# EAGLE library part XCV1000E_BG728 (library xilinx-xcv)
xcv1000e_bg728_1532 edit this description Auto generated by make-symbol-device-package-bsdl.ulp Rev. 26 Source: xcv1000e_bg728_1532.bsd
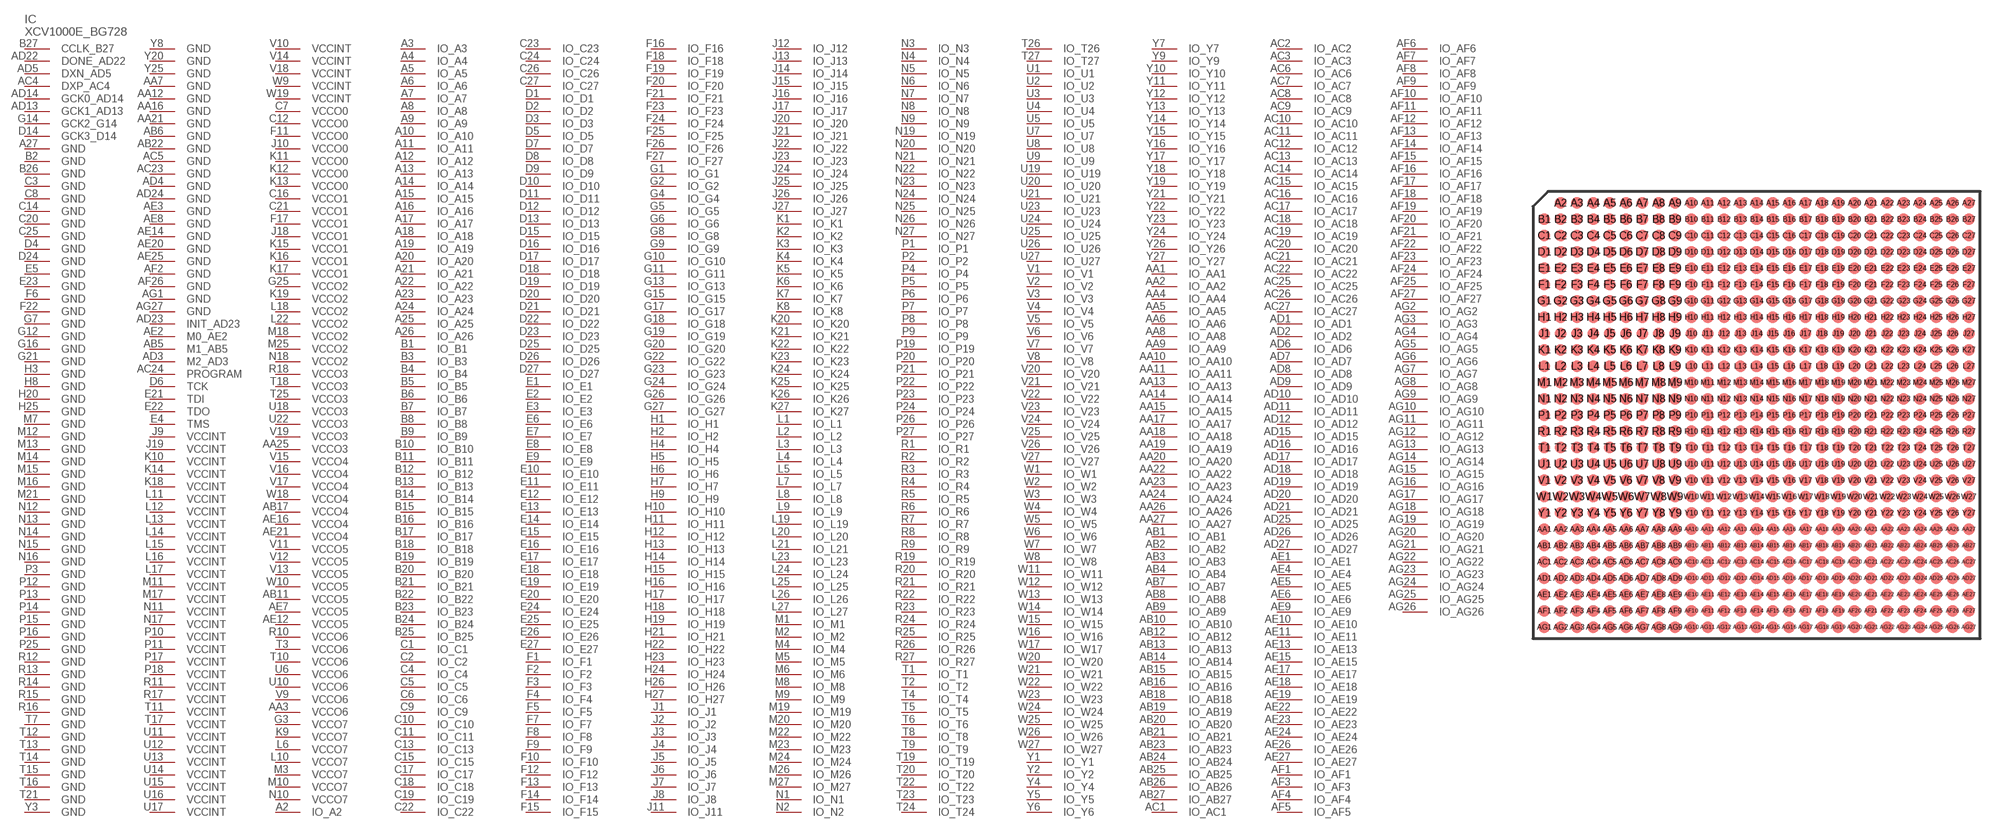
[diagram p9: symbol with the pads of BG728; footprint BG728]

Designator prefix IC

## XCV1000E_BG728 (OC_FARNELL: unknown; OC_NEWARK: unknown)  [BG728]
A2  IO_A2
A3  IO_A3
A4  IO_A4
A5  IO_A5
A6  IO_A6
A7  IO_A7
A8  IO_A8
A9  IO_A9
A10  IO_A10
A11  IO_A11
A12  IO_A12
A13  IO_A13
A14  IO_A14
A15  IO_A15
A16  IO_A16
A17  IO_A17
A18  IO_A18
A19  IO_A19
A20  IO_A20
A21  IO_A21
A22  IO_A22
A23  IO_A23
A24  IO_A24
A25  IO_A25
A26  IO_A26
A27  GND  pwr
AA1  IO_AA1
AA2  IO_AA2
AA3  VCCO6  pwr
AA4  IO_AA4
AA5  IO_AA5
AA6  IO_AA6
AA7  GND  pwr
AA8  IO_AA8
AA9  IO_AA9
AA10  IO_AA10
AA11  IO_AA11
AA12  GND  pwr
AA13  IO_AA13
AA14  IO_AA14
AA15  IO_AA15
AA16  GND  pwr
AA17  IO_AA17
AA18  IO_AA18
AA19  IO_AA19
AA20  IO_AA20
AA21  GND  pwr
AA22  IO_AA22
AA23  IO_AA23
AA24  IO_AA24
AA25  VCCO3  pwr
AA26  IO_AA26
AA27  IO_AA27
AB1  IO_AB1
AB2  IO_AB2
AB3  IO_AB3
AB4  IO_AB4
AB5  M1_AB5  in
AB6  GND  pwr
AB7  IO_AB7
AB8  IO_AB8
AB9  IO_AB9
AB10  IO_AB10
AB11  VCCO5  pwr
AB12  IO_AB12
AB13  IO_AB13
AB14  IO_AB14
AB15  IO_AB15
AB16  IO_AB16
AB17  VCCO4  pwr
AB18  IO_AB18
AB19  IO_AB19
AB20  IO_AB20
AB21  IO_AB21
AB22  GND  pwr
AB23  IO_AB23
AB24  IO_AB24
AB25  IO_AB25
AB26  IO_AB26
AB27  IO_AB27
AC1  IO_AC1
AC2  IO_AC2
AC3  IO_AC3
AC4  DXP_AC4  pas
AC5  GND  pwr
AC6  IO_AC6
AC7  IO_AC7
AC8  IO_AC8
AC9  IO_AC9
AC10  IO_AC10
AC11  IO_AC11
AC12  IO_AC12
AC13  IO_AC13
AC14  IO_AC14
AC15  IO_AC15
AC16  IO_AC16
AC17  IO_AC17
AC18  IO_AC18
AC19  IO_AC19
AC20  IO_AC20
AC21  IO_AC21
AC22  IO_AC22
AC23  GND  pwr
AC24  PROGRAM  in
AC25  IO_AC25
AC26  IO_AC26
AC27  IO_AC27
AD1  IO_AD1
AD2  IO_AD2
AD3  M2_AD3  in
AD4  GND  pwr
AD5  DXN_AD5  pas
AD6  IO_AD6
AD7  IO_AD7
AD8  IO_AD8
AD9  IO_AD9
AD10  IO_AD10
AD11  IO_AD11
AD12  IO_AD12
AD13  GCK1_AD13  in
AD14  GCK0_AD14  in
AD15  IO_AD15
AD16  IO_AD16
AD17  IO_AD17
AD18  IO_AD18
AD19  IO_AD19
AD20  IO_AD20
AD21  IO_AD21
AD22  DONE_AD22
AD23  INIT_AD23
AD24  GND  pwr
AD25  IO_AD25
AD26  IO_AD26
AD27  IO_AD27
AE1  IO_AE1
AE2  M0_AE2  in
AE3  GND  pwr
AE4  IO_AE4
AE5  IO_AE5
AE6  IO_AE6
AE7  VCCO5  pwr
AE8  GND  pwr
AE9  IO_AE9
AE10  IO_AE10
AE11  IO_AE11
AE12  VCCO5  pwr
AE13  IO_AE13
AE14  GND  pwr
AE15  IO_AE15
AE16  VCCO4  pwr
AE17  IO_AE17
AE18  IO_AE18
AE19  IO_AE19
AE20  GND  pwr
AE21  VCCO4  pwr
AE22  IO_AE22
AE23  IO_AE23
AE24  IO_AE24
AE25  GND  pwr
AE26  IO_AE26
AE27  IO_AE27
AF1  IO_AF1
AF2  GND  pwr
AF3  IO_AF3
AF4  IO_AF4
AF5  IO_AF5
AF6  IO_AF6
AF7  IO_AF7
AF8  IO_AF8
AF9  IO_AF9
AF10  IO_AF10
AF11  IO_AF11
AF12  IO_AF12
AF13  IO_AF13
AF14  IO_AF14
AF15  IO_AF15
AF16  IO_AF16
AF17  IO_AF17
AF18  IO_AF18
AF19  IO_AF19
AF20  IO_AF20
AF21  IO_AF21
AF22  IO_AF22
AF23  IO_AF23
AF24  IO_AF24
AF25  IO_AF25
AF26  GND  pwr
AF27  IO_AF27
AG1  GND  pwr
AG2  IO_AG2
AG3  IO_AG3
AG4  IO_AG4
AG5  IO_AG5
AG6  IO_AG6
AG7  IO_AG7
AG8  IO_AG8
AG9  IO_AG9
AG10  IO_AG10
AG11  IO_AG11
AG12  IO_AG12
AG13  IO_AG13
AG14  IO_AG14
AG15  IO_AG15
AG16  IO_AG16
AG17  IO_AG17
AG18  IO_AG18
AG19  IO_AG19
AG20  IO_AG20
AG21  IO_AG21
AG22  IO_AG22
AG23  IO_AG23
AG24  IO_AG24
AG25  IO_AG25
AG26  IO_AG26
AG27  GND  pwr
B1  IO_B1
B2  GND  pwr
B3  IO_B3
B4  IO_B4
B5  IO_B5
B6  IO_B6
B7  IO_B7
B8  IO_B8
B9  IO_B9
B10  IO_B10
B11  IO_B11
B12  IO_B12
B13  IO_B13
B14  IO_B14
B15  IO_B15
B16  IO_B16
B17  IO_B17
B18  IO_B18
B19  IO_B19
B20  IO_B20
B21  IO_B21
B22  IO_B22
B23  IO_B23
B24  IO_B24
B25  IO_B25
B26  GND  pwr
B27  CCLK_B27
C1  IO_C1
C2  IO_C2
C3  GND  pwr
C4  IO_C4
C5  IO_C5
C6  IO_C6
C7  VCCO0  pwr
C8  GND  pwr
C9  IO_C9
C10  IO_C10
C11  IO_C11
C12  VCCO0  pwr
C13  IO_C13
C14  GND  pwr
C15  IO_C15
C16  VCCO1  pwr
C17  IO_C17
C18  IO_C18
C19  IO_C19
C20  GND  pwr
C21  VCCO1  pwr
C22  IO_C22
C23  IO_C23
C24  IO_C24
C25  GND  pwr
C26  IO_C26
C27  IO_C27
D1  IO_D1
D2  IO_D2
D3  IO_D3
D4  GND  pwr
D5  IO_D5
D6  TCK  in
D7  IO_D7
D8  IO_D8
D9  IO_D9
D10  IO_D10
D11  IO_D11
D12  IO_D12
D13  IO_D13
D14  GCK3_D14  in
D15  IO_D15
D16  IO_D16
D17  IO_D17
D18  IO_D18
D19  IO_D19
D20  IO_D20
D21  IO_D21
D22  IO_D22
D23  IO_D23
D24  GND  pwr
D25  IO_D25
D26  IO_D26
D27  IO_D27
E1  IO_E1
E2  IO_E2
E3  IO_E3
E4  TMS  in
E5  GND  pwr
E6  IO_E6
E7  IO_E7
E8  IO_E8
E9  IO_E9
E10  IO_E10
E11  IO_E11
E12  IO_E12
E13  IO_E13
E14  IO_E14
E15  IO_E15
E16  IO_E16
E17  IO_E17
E18  IO_E18
E19  IO_E19
E20  IO_E20
E21  TDI  in
E22  TDO  out
E23  GND  pwr
E24  IO_E24
E25  IO_E25
E26  IO_E26
E27  IO_E27
F1  IO_F1
F2  IO_F2
F3  IO_F3
F4  IO_F4
F5  IO_F5
F6  GND  pwr
F7  IO_F7
F8  IO_F8
F9  IO_F9
F10  IO_F10
F11  VCCO0  pwr
F12  IO_F12
F13  IO_F13
F14  IO_F14
F15  IO_F15
F16  IO_F16
F17  VCCO1  pwr
F18  IO_F18
F19  IO_F19
F20  IO_F20
F21  IO_F21
F22  GND  pwr
F23  IO_F23
F24  IO_F24
F25  IO_F25
F26  IO_F26
F27  IO_F27
G1  IO_G1
G2  IO_G2
G3  VCCO7  pwr
G4  IO_G4
G5  IO_G5
G6  IO_G6
G7  GND  pwr
G8  IO_G8
G9  IO_G9
G10  IO_G10
G11  IO_G11
G12  GND  pwr
G13  IO_G13
G14  GCK2_G14  in
G15  IO_G15
G16  GND  pwr
G17  IO_G17
G18  IO_G18
G19  IO_G19
G20  IO_G20
G21  GND  pwr
G22  IO_G22
G23  IO_G23
G24  IO_G24
G25  VCCO2  pwr
G26  IO_G26
G27  IO_G27
H1  IO_H1
H2  IO_H2
H3  GND  pwr
H4  IO_H4
H5  IO_H5
H6  IO_H6
H7  IO_H7
H8  GND  pwr
H9  IO_H9
H10  IO_H10
H11  IO_H11
H12  IO_H12
H13  IO_H13
H14  IO_H14
H15  IO_H15
H16  IO_H16
H17  IO_H17
H18  IO_H18
H19  IO_H19
H20  GND  pwr
H21  IO_H21
H22  IO_H22
H23  IO_H23
H24  IO_H24
H25  GND  pwr
H26  IO_H26
H27  IO_H27
J1  IO_J1
J2  IO_J2
J3  IO_J3
J4  IO_J4
J5  IO_J5
J6  IO_J6
J7  IO_J7
J8  IO_J8
J9  VCCINT  pwr
J10  VCCO0  pwr
J11  IO_J11
J12  IO_J12
J13  IO_J13
J14  IO_J14
J15  IO_J15
J16  IO_J16
J17  IO_J17
J18  VCCO1  pwr
J19  VCCINT  pwr
J20  IO_J20
J21  IO_J21
J22  IO_J22
J23  IO_J23
J24  IO_J24
J25  IO_J25
J26  IO_J26
J27  IO_J27
K1  IO_K1
K2  IO_K2
K3  IO_K3
K4  IO_K4
K5  IO_K5
K6  IO_K6
K7  IO_K7
K8  IO_K8
K9  VCCO7  pwr
K10  VCCINT  pwr
K11  VCCO0  pwr
K12  VCCO0  pwr
K13  VCCO0  pwr
K14  VCCINT  pwr
K15  VCCO1  pwr
K16  VCCO1  pwr
K17  VCCO1  pwr
K18  VCCINT  pwr
K19  VCCO2  pwr
K20  IO_K20
K21  IO_K21
K22  IO_K22
K23  IO_K23
K24  IO_K24
K25  IO_K25
K26  IO_K26
K27  IO_K27
L1  IO_L1
L2  IO_L2
L3  IO_L3
L4  IO_L4
L5  IO_L5
L6  VCCO7  pwr
L7  IO_L7
L8  IO_L8
L9  IO_L9
L10  VCCO7  pwr
L11  VCCINT  pwr
L12  VCCINT  pwr
L13  VCCINT  pwr
L14  VCCINT  pwr
L15  VCCINT  pwr
L16  VCCINT  pwr
L17  VCCINT  pwr
L18  VCCO2  pwr
L19  IO_L19
L20  IO_L20
L21  IO_L21
L22  VCCO2  pwr
L23  IO_L23
L24  IO_L24
L25  IO_L25
L26  IO_L26
L27  IO_L27
M1  IO_M1
M2  IO_M2
M3  VCCO7  pwr
M4  IO_M4
M5  IO_M5
M6  IO_M6
M7  GND  pwr
M8  IO_M8
M9  IO_M9
M10  VCCO7  pwr
M11  VCCINT  pwr
M12  GND  pwr
M13  GND  pwr
M14  GND  pwr
M15  GND  pwr
M16  GND  pwr
M17  VCCINT  pwr
M18  VCCO2  pwr
M19  IO_M19
M20  IO_M20
M21  GND  pwr
M22  IO_M22
M23  IO_M23
M24  IO_M24
M25  VCCO2  pwr
M26  IO_M26
M27  IO_M27
N1  IO_N1
N2  IO_N2
N3  IO_N3
N4  IO_N4
N5  IO_N5
N6  IO_N6
N7  IO_N7
N8  IO_N8
N9  IO_N9
N10  VCCO7  pwr
N11  VCCINT  pwr
N12  GND  pwr
N13  GND  pwr
N14  GND  pwr
N15  GND  pwr
N16  GND  pwr
N17  VCCINT  pwr
N18  VCCO2  pwr
N19  IO_N19
N20  IO_N20
N21  IO_N21
N22  IO_N22
N23  IO_N23
N24  IO_N24
N25  IO_N25
N26  IO_N26
N27  IO_N27
P1  IO_P1
P2  IO_P2
P3  GND  pwr
P4  IO_P4
P5  IO_P5
P6  IO_P6
P7  IO_P7
P8  IO_P8
P9  IO_P9
P10  VCCINT  pwr
P11  VCCINT  pwr
P12  GND  pwr
P13  GND  pwr
P14  GND  pwr
P15  GND  pwr
P16  GND  pwr
P17  VCCINT  pwr
P18  VCCINT  pwr
P19  IO_P19
P20  IO_P20
P21  IO_P21
P22  IO_P22
P23  IO_P23
P24  IO_P24
P25  GND  pwr
P26  IO_P26
P27  IO_P27
R1  IO_R1
R2  IO_R2
R3  IO_R3
R4  IO_R4
R5  IO_R5
R6  IO_R6
R7  IO_R7
R8  IO_R8
R9  IO_R9
R10  VCCO6  pwr
R11  VCCINT  pwr
R12  GND  pwr
R13  GND  pwr
R14  GND  pwr
R15  GND  pwr
R16  GND  pwr
R17  VCCINT  pwr
R18  VCCO3  pwr
R19  IO_R19
R20  IO_R20
R21  IO_R21
R22  IO_R22
R23  IO_R23
R24  IO_R24
R25  IO_R25
R26  IO_R26
R27  IO_R27
T1  IO_T1
T2  IO_T2
T3  VCCO6  pwr
T4  IO_T4
T5  IO_T5
T6  IO_T6
T7  GND  pwr
T8  IO_T8
T9  IO_T9
T10  VCCO6  pwr
T11  VCCINT  pwr
T12  GND  pwr
T13  GND  pwr
T14  GND  pwr
T15  GND  pwr
T16  GND  pwr
T17  VCCINT  pwr
T18  VCCO3  pwr
T19  IO_T19
T20  IO_T20
T21  GND  pwr
T22  IO_T22
T23  IO_T23
T24  IO_T24
T25  VCCO3  pwr
T26  IO_T26
T27  IO_T27
U1  IO_U1
U2  IO_U2
U3  IO_U3
U4  IO_U4
U5  IO_U5
U6  VCCO6  pwr
U7  IO_U7
U8  IO_U8
U9  IO_U9
U10  VCCO6  pwr
U11  VCCINT  pwr
U12  VCCINT  pwr
U13  VCCINT  pwr
U14  VCCINT  pwr
U15  VCCINT  pwr
U16  VCCINT  pwr
U17  VCCINT  pwr
U18  VCCO3  pwr
U19  IO_U19
U20  IO_U20
U21  IO_U21
U22  VCCO3  pwr
U23  IO_U23
U24  IO_U24
U25  IO_U25
U26  IO_U26
U27  IO_U27
V1  IO_V1
V2  IO_V2
V3  IO_V3
V4  IO_V4
V5  IO_V5
V6  IO_V6
V7  IO_V7
V8  IO_V8
V9  VCCO6  pwr
V10  VCCINT  pwr
V11  VCCO5  pwr
V12  VCCO5  pwr
V13  VCCO5  pwr
V14  VCCINT  pwr
V15  VCCO4  pwr
V16  VCCO4  pwr
V17  VCCO4  pwr
V18  VCCINT  pwr
V19  VCCO3  pwr
V20  IO_V20
V21  IO_V21
V22  IO_V22
V23  IO_V23
V24  IO_V24
V25  IO_V25
V26  IO_V26
V27  IO_V27
W1  IO_W1
W2  IO_W2
W3  IO_W3
W4  IO_W4
W5  IO_W5
W6  IO_W6
W7  IO_W7
W8  IO_W8
W9  VCCINT  pwr
W10  VCCO5  pwr
W11  IO_W11
W12  IO_W12
W13  IO_W13
W14  IO_W14
W15  IO_W15
W16  IO_W16
W17  IO_W17
W18  VCCO4  pwr
W19  VCCINT  pwr
W20  IO_W20
W21  IO_W21
W22  IO_W22
W23  IO_W23
W24  IO_W24
W25  IO_W25
W26  IO_W26
W27  IO_W27
Y1  IO_Y1
Y2  IO_Y2
Y3  GND  pwr
Y4  IO_Y4
Y5  IO_Y5
Y6  IO_Y6
Y7  IO_Y7
Y8  GND  pwr
Y9  IO_Y9
Y10  IO_Y10
Y11  IO_Y11
Y12  IO_Y12
Y13  IO_Y13
Y14  IO_Y14
Y15  IO_Y15
Y16  IO_Y16
Y17  IO_Y17
Y18  IO_Y18
Y19  IO_Y19
Y20  GND  pwr
Y21  IO_Y21
Y22  IO_Y22
Y23  IO_Y23
Y24  IO_Y24
Y25  GND  pwr
Y26  IO_Y26
Y27  IO_Y27

## Footprint BG728 (pad centres in mm)
xcv1000e_bg728_1532 edit this description Auto generated by make-symbol-device-package-bsdl.ulp Rev. 26 Source: xcv1000e_bg728_1532.bsd
smd 0.9 x 0.9: A2 -15.24,16.51; A3 -13.97,16.51; A4 -12.7,16.51; A5 -11.43,16.51; A6 -10.16,16.51; A7 -8.89,16.51; A8 -7.62,16.51; A9 -6.35,16.51; A10 -5.08,16.51; A11 -3.81,16.51; A12 -2.54,16.51; A13 -1.27,16.51; A14 0,16.51; A15 1.27,16.51; A16 2.54,16.51; A17 3.81,16.51; A18 5.08,16.51; A19 6.35,16.51; A20 7.62,16.51; A21 8.89,16.51; A22 10.16,16.51; A23 11.43,16.51; A24 12.7,16.51; A25 13.97,16.51; A26 15.24,16.51; A27 16.51,16.51; AA1 -16.51,-8.89; AA2 -15.24,-8.89; AA3 -13.97,-8.89; AA4 -12.7,-8.89; AA5 -11.43,-8.89; AA6 -10.16,-8.89; AA7 -8.89,-8.89; AA8 -7.62,-8.89; AA9 -6.35,-8.89; AA10 -5.08,-8.89; AA11 -3.81,-8.89; AA12 -2.54,-8.89; AA13 -1.27,-8.89; AA14 0,-8.89; AA15 1.27,-8.89; AA16 2.54,-8.89; AA17 3.81,-8.89; AA18 5.08,-8.89; AA19 6.35,-8.89; AA20 7.62,-8.89; AA21 8.89,-8.89; AA22 10.16,-8.89; AA23 11.43,-8.89; AA24 12.7,-8.89; AA25 13.97,-8.89; AA26 15.24,-8.89; AA27 16.51,-8.89; AB1 -16.51,-10.16; AB2 -15.24,-10.16; AB3 -13.97,-10.16; AB4 -12.7,-10.16; AB5 -11.43,-10.16; AB6 -10.16,-10.16; AB7 -8.89,-10.16; AB8 -7.62,-10.16; AB9 -6.35,-10.16; AB10 -5.08,-10.16; AB11 -3.81,-10.16; AB12 -2.54,-10.16; AB13 -1.27,-10.16; AB14 0,-10.16; AB15 1.27,-10.16; AB16 2.54,-10.16; AB17 3.81,-10.16; AB18 5.08,-10.16; AB19 6.35,-10.16; AB20 7.62,-10.16; AB21 8.89,-10.16; AB22 10.16,-10.16; AB23 11.43,-10.16; AB24 12.7,-10.16; AB25 13.97,-10.16; AB26 15.24,-10.16; AB27 16.51,-10.16; AC1 -16.51,-11.43; AC2 -15.24,-11.43; AC3 -13.97,-11.43; AC4 -12.7,-11.43; AC5 -11.43,-11.43; AC6 -10.16,-11.43; AC7 -8.89,-11.43; AC8 -7.62,-11.43; AC9 -6.35,-11.43; AC10 -5.08,-11.43; AC11 -3.81,-11.43; AC12 -2.54,-11.43; AC13 -1.27,-11.43; AC14 0,-11.43; AC15 1.27,-11.43; AC16 2.54,-11.43; AC17 3.81,-11.43; AC18 5.08,-11.43; AC19 6.35,-11.43; AC20 7.62,-11.43; AC21 8.89,-11.43; AC22 10.16,-11.43; AC23 11.43,-11.43; AC24 12.7,-11.43; AC25 13.97,-11.43; AC26 15.24,-11.43; AC27 16.51,-11.43; AD1 -16.51,-12.7; AD2 -15.24,-12.7; AD3 -13.97,-12.7; AD4 -12.7,-12.7; AD5 -11.43,-12.7; AD6 -10.16,-12.7; AD7 -8.89,-12.7; AD8 -7.62,-12.7; AD9 -6.35,-12.7; AD10 -5.08,-12.7; AD11 -3.81,-12.7; AD12 -2.54,-12.7; AD13 -1.27,-12.7; AD14 0,-12.7; AD15 1.27,-12.7; AD16 2.54,-12.7; AD17 3.81,-12.7; AD18 5.08,-12.7; AD19 6.35,-12.7; AD20 7.62,-12.7; AD21 8.89,-12.7; AD22 10.16,-12.7; AD23 11.43,-12.7; AD24 12.7,-12.7; AD25 13.97,-12.7; AD26 15.24,-12.7; AD27 16.51,-12.7; AE1 -16.51,-13.97; AE2 -15.24,-13.97; AE3 -13.97,-13.97; AE4 -12.7,-13.97; AE5 -11.43,-13.97; AE6 -10.16,-13.97; AE7 -8.89,-13.97; AE8 -7.62,-13.97; AE9 -6.35,-13.97; AE10 -5.08,-13.97; AE11 -3.81,-13.97; AE12 -2.54,-13.97; AE13 -1.27,-13.97; AE14 0,-13.97; AE15 1.27,-13.97; AE16 2.54,-13.97; AE17 3.81,-13.97; AE18 5.08,-13.97; AE19 6.35,-13.97; AE20 7.62,-13.97; AE21 8.89,-13.97; AE22 10.16,-13.97; AE23 11.43,-13.97; AE24 12.7,-13.97; AE25 13.97,-13.97; AE26 15.24,-13.97; AE27 16.51,-13.97; AF1 -16.51,-15.24; AF2 -15.24,-15.24; AF3 -13.97,-15.24; AF4 -12.7,-15.24; AF5 -11.43,-15.24; AF6 -10.16,-15.24; AF7 -8.89,-15.24; AF8 -7.62,-15.24; AF9 -6.35,-15.24; AF10 -5.08,-15.24; AF11 -3.81,-15.24; AF12 -2.54,-15.24; AF13 -1.27,-15.24; AF14 0,-15.24; AF15 1.27,-15.24; AF16 2.54,-15.24; AF17 3.81,-15.24; AF18 5.08,-15.24; AF19 6.35,-15.24; AF20 7.62,-15.24; AF21 8.89,-15.24; AF22 10.16,-15.24; AF23 11.43,-15.24; AF24 12.7,-15.24; AF25 13.97,-15.24; AF26 15.24,-15.24; AF27 16.51,-15.24; AG1 -16.51,-16.51; AG2 -15.24,-16.51; AG3 -13.97,-16.51; AG4 -12.7,-16.51; AG5 -11.43,-16.51; AG6 -10.16,-16.51; AG7 -8.89,-16.51; AG8 -7.62,-16.51; AG9 -6.35,-16.51; AG10 -5.08,-16.51; AG11 -3.81,-16.51; AG12 -2.54,-16.51; AG13 -1.27,-16.51; AG14 0,-16.51; AG15 1.27,-16.51; AG16 2.54,-16.51; AG17 3.81,-16.51; AG18 5.08,-16.51; AG19 6.35,-16.51; AG20 7.62,-16.51; AG21 8.89,-16.51; AG22 10.16,-16.51; AG23 11.43,-16.51; AG24 12.7,-16.51; AG25 13.97,-16.51; AG26 15.24,-16.51; AG27 16.51,-16.51; B1 -16.51,15.24; B2 -15.24,15.24; B3 -13.97,15.24; B4 -12.7,15.24; B5 -11.43,15.24; B6 -10.16,15.24; B7 -8.89,15.24; B8 -7.62,15.24; B9 -6.35,15.24; B10 -5.08,15.24; B11 -3.81,15.24; B12 -2.54,15.24; B13 -1.27,15.24; B14 0,15.24; B15 1.27,15.24; B16 2.54,15.24; B17 3.81,15.24; B18 5.08,15.24; B19 6.35,15.24; B20 7.62,15.24; B21 8.89,15.24; B22 10.16,15.24; B23 11.43,15.24; B24 12.7,15.24; B25 13.97,15.24; B26 15.24,15.24; B27 16.51,15.24; C1 -16.51,13.97; C2 -15.24,13.97; C3 -13.97,13.97; C4 -12.7,13.97; C5 -11.43,13.97; C6 -10.16,13.97; C7 -8.89,13.97; C8 -7.62,13.97; C9 -6.35,13.97; C10 -5.08,13.97; C11 -3.81,13.97; C12 -2.54,13.97; C13 -1.27,13.97; C14 0,13.97; C15 1.27,13.97; C16 2.54,13.97; C17 3.81,13.97; C18 5.08,13.97; C19 6.35,13.97; C20 7.62,13.97; C21 8.89,13.97; C22 10.16,13.97; C23 11.43,13.97; C24 12.7,13.97; C25 13.97,13.97; C26 15.24,13.97; C27 16.51,13.97; D1 -16.51,12.7; D2 -15.24,12.7; D3 -13.97,12.7; D4 -12.7,12.7; D5 -11.43,12.7; D6 -10.16,12.7; D7 -8.89,12.7; D8 -7.62,12.7; D9 -6.35,12.7; D10 -5.08,12.7; D11 -3.81,12.7; D12 -2.54,12.7; D13 -1.27,12.7; D14 0,12.7; D15 1.27,12.7; D16 2.54,12.7; D17 3.81,12.7; D18 5.08,12.7; D19 6.35,12.7; D20 7.62,12.7; D21 8.89,12.7; D22 10.16,12.7; D23 11.43,12.7; D24 12.7,12.7; D25 13.97,12.7; D26 15.24,12.7; D27 16.51,12.7; E1 -16.51,11.43; E2 -15.24,11.43; E3 -13.97,11.43; E4 -12.7,11.43; E5 -11.43,11.43; E6 -10.16,11.43; E7 -8.89,11.43; E8 -7.62,11.43; E9 -6.35,11.43; E10 -5.08,11.43; E11 -3.81,11.43; E12 -2.54,11.43; E13 -1.27,11.43; E14 0,11.43; E15 1.27,11.43; E16 2.54,11.43; E17 3.81,11.43; E18 5.08,11.43; E19 6.35,11.43; E20 7.62,11.43; E21 8.89,11.43; E22 10.16,11.43; E23 11.43,11.43; E24 12.7,11.43; E25 13.97,11.43; E26 15.24,11.43; E27 16.51,11.43; F1 -16.51,10.16; F2 -15.24,10.16; F3 -13.97,10.16; F4 -12.7,10.16; F5 -11.43,10.16; F6 -10.16,10.16; F7 -8.89,10.16; F8 -7.62,10.16; F9 -6.35,10.16; F10 -5.08,10.16; F11 -3.81,10.16; F12 -2.54,10.16; F13 -1.27,10.16; F14 0,10.16; F15 1.27,10.16; F16 2.54,10.16; F17 3.81,10.16; F18 5.08,10.16; F19 6.35,10.16; F20 7.62,10.16; F21 8.89,10.16; F22 10.16,10.16; F23 11.43,10.16; F24 12.7,10.16; F25 13.97,10.16; F26 15.24,10.16; F27 16.51,10.16; G1 -16.51,8.89; G2 -15.24,8.89; G3 -13.97,8.89; G4 -12.7,8.89; G5 -11.43,8.89; G6 -10.16,8.89; G7 -8.89,8.89; G8 -7.62,8.89; G9 -6.35,8.89; G10 -5.08,8.89; G11 -3.81,8.89; G12 -2.54,8.89; G13 -1.27,8.89; G14 0,8.89; G15 1.27,8.89; G16 2.54,8.89; G17 3.81,8.89; G18 5.08,8.89; G19 6.35,8.89; G20 7.62,8.89; G21 8.89,8.89; G22 10.16,8.89; G23 11.43,8.89; G24 12.7,8.89; G25 13.97,8.89; G26 15.24,8.89; G27 16.51,8.89; H1 -16.51,7.62; H2 -15.24,7.62; H3 -13.97,7.62; H4 -12.7,7.62; H5 -11.43,7.62; H6 -10.16,7.62; H7 -8.89,7.62; H8 -7.62,7.62; H9 -6.35,7.62; H10 -5.08,7.62; H11 -3.81,7.62; H12 -2.54,7.62; H13 -1.27,7.62; H14 0,7.62; H15 1.27,7.62; H16 2.54,7.62; H17 3.81,7.62; H18 5.08,7.62; H19 6.35,7.62; H20 7.62,7.62; H21 8.89,7.62; H22 10.16,7.62; H23 11.43,7.62; H24 12.7,7.62; H25 13.97,7.62; H26 15.24,7.62; H27 16.51,7.62; J1 -16.51,6.35; J2 -15.24,6.35; J3 -13.97,6.35; J4 -12.7,6.35; J5 -11.43,6.35; J6 -10.16,6.35; J7 -8.89,6.35; J8 -7.62,6.35; J9 -6.35,6.35; J10 -5.08,6.35; J11 -3.81,6.35; J12 -2.54,6.35; J13 -1.27,6.35; J14 0,6.35; J15 1.27,6.35; J16 2.54,6.35; J17 3.81,6.35; J18 5.08,6.35; J19 6.35,6.35; J20 7.62,6.35; J21 8.89,6.35; J22 10.16,6.35; J23 11.43,6.35; J24 12.7,6.35; J25 13.97,6.35; J26 15.24,6.35; J27 16.51,6.35; K1 -16.51,5.08; K2 -15.24,5.08; K3 -13.97,5.08; K4 -12.7,5.08; K5 -11.43,5.08; K6 -10.16,5.08; K7 -8.89,5.08; K8 -7.62,5.08; K9 -6.35,5.08; K10 -5.08,5.08; K11 -3.81,5.08; K12 -2.54,5.08; K13 -1.27,5.08; K14 0,5.08; K15 1.27,5.08; K16 2.54,5.08; K17 3.81,5.08; K18 5.08,5.08; K19 6.35,5.08; K20 7.62,5.08; K21 8.89,5.08; K22 10.16,5.08; K23 11.43,5.08; K24 12.7,5.08; K25 13.97,5.08; K26 15.24,5.08; K27 16.51,5.08; L1 -16.51,3.81; L2 -15.24,3.81; L3 -13.97,3.81; L4 -12.7,3.81; L5 -11.43,3.81; L6 -10.16,3.81; L7 -8.89,3.81; L8 -7.62,3.81; L9 -6.35,3.81; L10 -5.08,3.81; L11 -3.81,3.81; L12 -2.54,3.81; L13 -1.27,3.81; L14 0,3.81; L15 1.27,3.81; L16 2.54,3.81; L17 3.81,3.81; L18 5.08,3.81; L19 6.35,3.81; L20 7.62,3.81; L21 8.89,3.81; L22 10.16,3.81; L23 11.43,3.81; L24 12.7,3.81; L25 13.97,3.81; L26 15.24,3.81; L27 16.51,3.81; M1 -16.51,2.54; M2 -15.24,2.54; M3 -13.97,2.54; M4 -12.7,2.54; M5 -11.43,2.54; M6 -10.16,2.54; M7 -8.89,2.54; M8 -7.62,2.54; M9 -6.35,2.54; M10 -5.08,2.54; M11 -3.81,2.54; M12 -2.54,2.54; M13 -1.27,2.54; M14 0,2.54; M15 1.27,2.54; M16 2.54,2.54; M17 3.81,2.54; M18 5.08,2.54; M19 6.35,2.54; M20 7.62,2.54; M21 8.89,2.54; M22 10.16,2.54; M23 11.43,2.54; M24 12.7,2.54; M25 13.97,2.54; M26 15.24,2.54; M27 16.51,2.54; N1 -16.51,1.27; N2 -15.24,1.27; N3 -13.97,1.27; N4 -12.7,1.27; N5 -11.43,1.27; N6 -10.16,1.27; N7 -8.89,1.27; N8 -7.62,1.27; N9 -6.35,1.27; N10 -5.08,1.27; N11 -3.81,1.27; N12 -2.54,1.27; N13 -1.27,1.27; N14 0,1.27; N15 1.27,1.27; N16 2.54,1.27; N17 3.81,1.27; N18 5.08,1.27; N19 6.35,1.27; N20 7.62,1.27; N21 8.89,1.27; N22 10.16,1.27; N23 11.43,1.27; N24 12.7,1.27; N25 13.97,1.27; N26 15.24,1.27; N27 16.51,1.27; P1 -16.51,0; P2 -15.24,0; P3 -13.97,0; P4 -12.7,0; P5 -11.43,0; P6 -10.16,0; P7 -8.89,0; P8 -7.62,0; P9 -6.35,0; P10 -5.08,0; P11 -3.81,0; P12 -2.54,0; P13 -1.27,0; P14 0,0; P15 1.27,0; P16 2.54,0; P17 3.81,0; P18 5.08,0; P19 6.35,0; P20 7.62,0; P21 8.89,0; P22 10.16,0; P23 11.43,0; P24 12.7,0; P25 13.97,0; P26 15.24,0; P27 16.51,0; R1 -16.51,-1.27; R2 -15.24,-1.27; R3 -13.97,-1.27; R4 -12.7,-1.27; R5 -11.43,-1.27; R6 -10.16,-1.27; R7 -8.89,-1.27; R8 -7.62,-1.27; R9 -6.35,-1.27; R10 -5.08,-1.27; R11 -3.81,-1.27; R12 -2.54,-1.27; R13 -1.27,-1.27; R14 0,-1.27; R15 1.27,-1.27; R16 2.54,-1.27; R17 3.81,-1.27; R18 5.08,-1.27; R19 6.35,-1.27; R20 7.62,-1.27; R21 8.89,-1.27; R22 10.16,-1.27; R23 11.43,-1.27; R24 12.7,-1.27; R25 13.97,-1.27; R26 15.24,-1.27; R27 16.51,-1.27; T1 -16.51,-2.54; T2 -15.24,-2.54; T3 -13.97,-2.54; T4 -12.7,-2.54; T5 -11.43,-2.54; T6 -10.16,-2.54; T7 -8.89,-2.54; T8 -7.62,-2.54; T9 -6.35,-2.54; T10 -5.08,-2.54; T11 -3.81,-2.54; T12 -2.54,-2.54; T13 -1.27,-2.54; T14 0,-2.54; T15 1.27,-2.54; T16 2.54,-2.54; T17 3.81,-2.54; T18 5.08,-2.54; T19 6.35,-2.54; T20 7.62,-2.54; T21 8.89,-2.54; T22 10.16,-2.54; T23 11.43,-2.54; T24 12.7,-2.54; T25 13.97,-2.54; T26 15.24,-2.54; T27 16.51,-2.54; U1 -16.51,-3.81; U2 -15.24,-3.81; U3 -13.97,-3.81; U4 -12.7,-3.81; U5 -11.43,-3.81; U6 -10.16,-3.81; U7 -8.89,-3.81; U8 -7.62,-3.81; U9 -6.35,-3.81; U10 -5.08,-3.81; U11 -3.81,-3.81; U12 -2.54,-3.81; U13 -1.27,-3.81; U14 0,-3.81; U15 1.27,-3.81; U16 2.54,-3.81; U17 3.81,-3.81; U18 5.08,-3.81; U19 6.35,-3.81; U20 7.62,-3.81; U21 8.89,-3.81; U22 10.16,-3.81; U23 11.43,-3.81; U24 12.7,-3.81; U25 13.97,-3.81; U26 15.24,-3.81; U27 16.51,-3.81; V1 -16.51,-5.08; V2 -15.24,-5.08; V3 -13.97,-5.08; V4 -12.7,-5.08; V5 -11.43,-5.08; V6 -10.16,-5.08; V7 -8.89,-5.08; V8 -7.62,-5.08; V9 -6.35,-5.08; V10 -5.08,-5.08; V11 -3.81,-5.08; V12 -2.54,-5.08; V13 -1.27,-5.08; V14 0,-5.08; V15 1.27,-5.08; V16 2.54,-5.08; V17 3.81,-5.08; V18 5.08,-5.08; V19 6.35,-5.08; V20 7.62,-5.08; V21 8.89,-5.08; V22 10.16,-5.08; V23 11.43,-5.08; V24 12.7,-5.08; V25 13.97,-5.08; V26 15.24,-5.08; V27 16.51,-5.08; W1 -16.51,-6.35; W2 -15.24,-6.35; W3 -13.97,-6.35; W4 -12.7,-6.35; W5 -11.43,-6.35; W6 -10.16,-6.35; W7 -8.89,-6.35; W8 -7.62,-6.35; W9 -6.35,-6.35; W10 -5.08,-6.35; W11 -3.81,-6.35; W12 -2.54,-6.35; W13 -1.27,-6.35; W14 0,-6.35; W15 1.27,-6.35; W16 2.54,-6.35; W17 3.81,-6.35; W18 5.08,-6.35; W19 6.35,-6.35; W20 7.62,-6.35; W21 8.89,-6.35; W22 10.16,-6.35; W23 11.43,-6.35; W24 12.7,-6.35; W25 13.97,-6.35; W26 15.24,-6.35; W27 16.51,-6.35; Y1 -16.51,-7.62; Y2 -15.24,-7.62; Y3 -13.97,-7.62; Y4 -12.7,-7.62; Y5 -11.43,-7.62; Y6 -10.16,-7.62; Y7 -8.89,-7.62; Y8 -7.62,-7.62; Y9 -6.35,-7.62; Y10 -5.08,-7.62; Y11 -3.81,-7.62; Y12 -2.54,-7.62; Y13 -1.27,-7.62; Y14 0,-7.62; Y15 1.27,-7.62; Y16 2.54,-7.62; Y17 3.81,-7.62; Y18 5.08,-7.62; Y19 6.35,-7.62; Y20 7.62,-7.62; Y21 8.89,-7.62; Y22 10.16,-7.62; Y23 11.43,-7.62; Y24 12.7,-7.62; Y25 13.97,-7.62; Y26 15.24,-7.62; Y27 16.51,-7.62